# Altium footprint library MLCC_0201.PcbLib: 1 footprints
Each footprint in its own frame and in the unit in brackets; x right, y up, seen from the top. Pads: shape width x height; smd on the part's side, far side on the other; paste and mask are expansions set on the pad; w line width, h text height; cw(c..) or ccw(c..) is an arc to the next point about the centre after c.
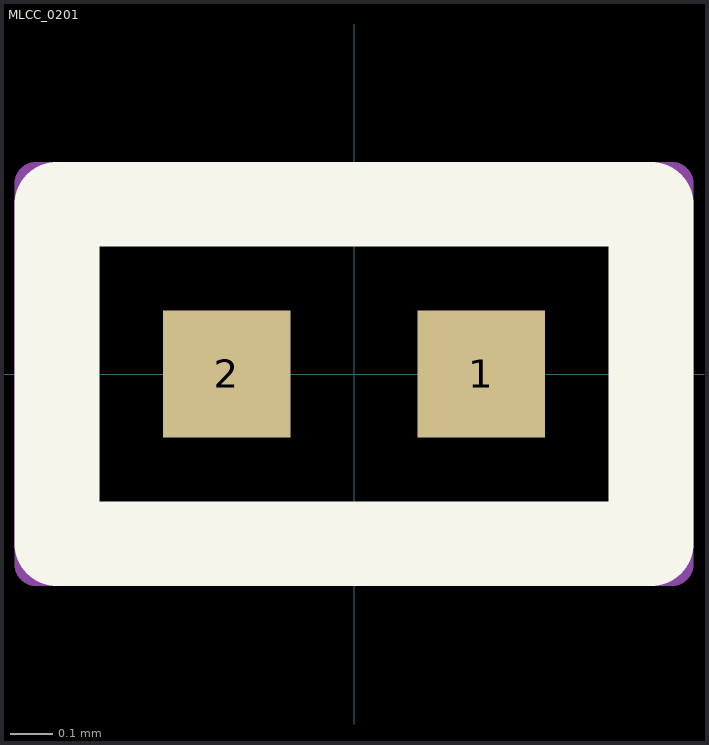
[diagram p0: the footprint, top view; thin cyan lines are the x and y axes]

## MLCC_0201 [mm]
pads (2):
  rect 0.3x0.3 smd: 1(0.3,0) 2(-0.3,0)
Top Overlay:
  lines w0.2: -0.7,-0.4 -0.7,0.4 0.7,0.4 0.7,-0.4 -0.7,-0.4
Top Courtyard:
  lines w0.1: -0.75,-0.45 -0.75,0.45 0.75,0.45 0.75,-0.45 -0.75,-0.45
3D body "AIMC-0201-3N3S-T.STEP": height 0.3, standoff 0, extent -0.3,-0.15 0.3,0.15